# Altium integrated library Linear Technology Operational Amplifiers (LT2000-LT6000).IntLib: 1710 symbols (part 4 of 75)
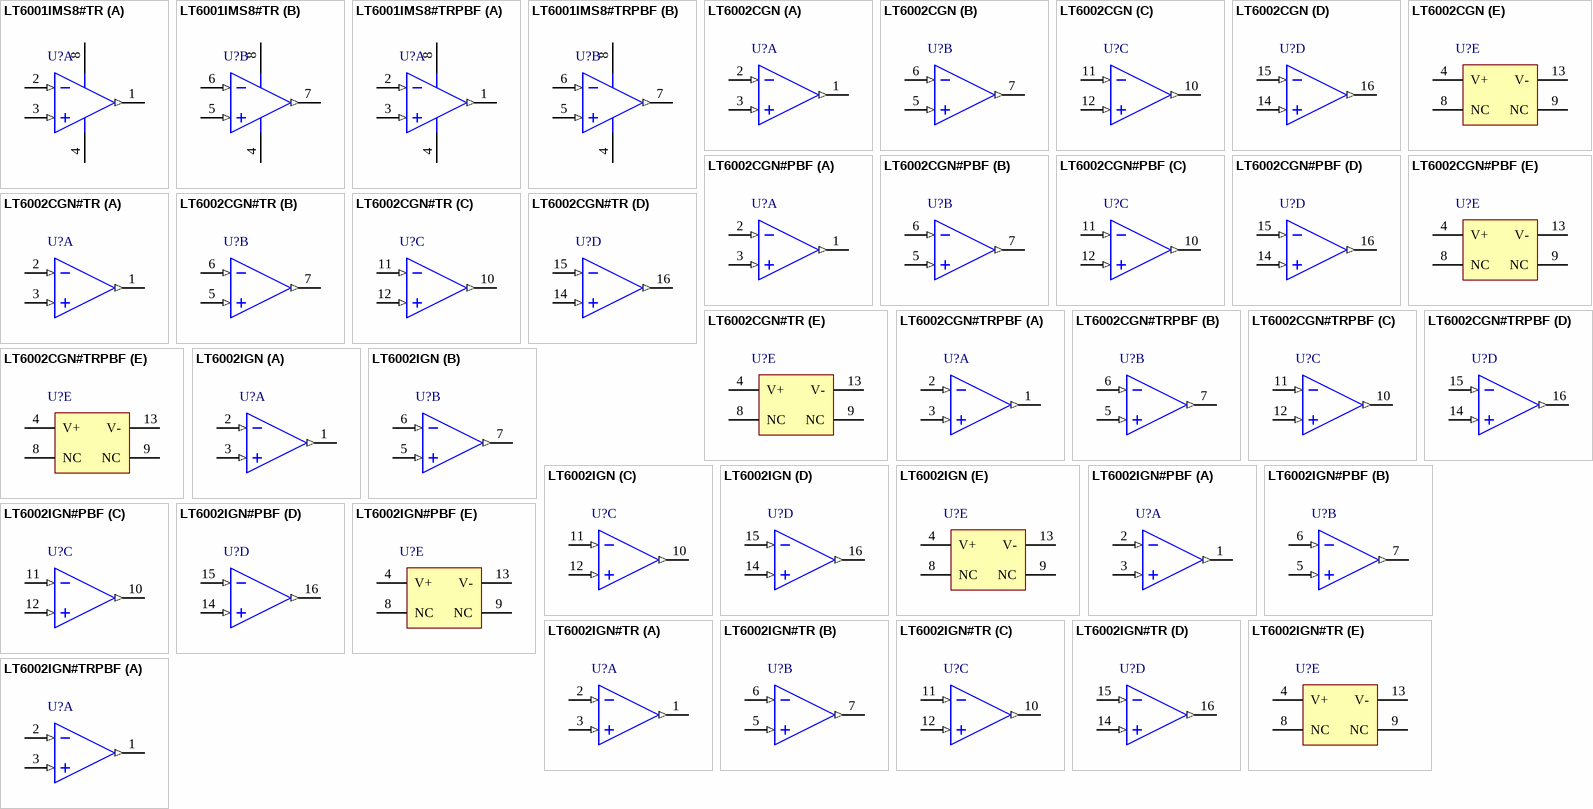
[diagram p83: symbols LT6001IMS8#TR to LT6002IGN#TRPBF]

## LT6002CGN#PBF
designator U?
Quad Channel, Precision Operational Amplifier, RRIO, 0.05 MHz Typical GBW, 0.015 V/us Typical SR, 1.8 to 18 V, 16-Pin SOP (GN-16), Commercial, Pb-Free; Linear Technology Part Number: LT6002; Manufacturer: Linear Technology; PartNumber: LT6002CGN#PBF; Channels (#): 4; GBW (MHz) Typical: 0.05; Is (mA) Typical: 0.013; SR (V/us) Typical: 0.015; Vos (mV) Guaranteed: 0.75; Vos (mV) Typical: 0.25; Vs Max (V): 18; Vs Min (V): 1.8; DatasheetVersion: Rev. A; PackageVersion: Rev B; PackageReference: LT-GN-16; PackageDescription: 16-Lead Plastic SSOP, Body 4.9 x 3.9 mm, Pitch 0.635 mm; Supplier 1: Digi-Key; Supplier Part Number 1: LT6002CGN#PBF-ND; Supplier 2: Newark; Supplier Part Number 2: 57M8873; RoHS: Pb-Free; Type: VFB; Mounting Technology: Surface Mount; ComponentLink1Description: Manufacturer URL; ComponentLink1URL: http://www.linear.com/; ComponentLink2Description: Datasheet; ComponentLink2URL: http://cds.linear.com/docs/en/datasheet/600012fa.pdf; ComponentLink3Description: Package Specification; ComponentLink3URL: http://cds.linear.com/docs/en/packaging/05081641_B_GN16.pdf
footprint LT-GN-16_N (SOP, 16-Leads, Body 4.9x3.9mm, Pitch 0.635mm, IPC Medium Density)
footprint LT-GN-16_L (SOP, 16-Leads, Body 4.9x3.9mm, Pitch 0.635mm, IPC High Density)
footprint LT-GN-16_M (SOP, 16-Leads, Body 4.9x3.9mm, Pitch 0.635mm, IPC Low Density)
part A pins: 1 OUT A (out), 2 IN- A (in), 3 IN+ A (in)
part B pins: 5 IN+ B (in), 6 IN- B (in), 7 OUT B (out)
part C pins: 10 OUT C (out), 11 IN- C (in), 12 IN+ C (in)
part D pins: 14 IN+ D (in), 15 IN- D (in), 16 OUT D (out)
part E pins: 4 V+ (power), 8 NC, 9 NC, 13 V- (power)

## LT6002CGN#TR
designator U?
Quad Channel, Precision Operational Amplifier, RRIO, 0.05 MHz Typical GBW, 0.015 V/us Typical SR, 1.8 to 18 V, 16-Pin SOP (GN-16), Commercial, Reel; Linear Technology Part Number: LT6002; Manufacturer: Linear Technology; PartNumber: LT6002CGN#TR; Channels (#): 4; GBW (MHz) Typical: 0.05; Is (mA) Typical: 0.013; SR (V/us) Typical: 0.015; Vos (mV) Guaranteed: 0.75; Vos (mV) Typical: 0.25; Vs Max (V): 18; Vs Min (V): 1.8; DatasheetVersion: Rev. A; PackageVersion: Rev B; PackageReference: LT-GN-16; PackageDescription: 16-Lead Plastic SSOP, Body 4.9 x 3.9 mm, Pitch 0.635 mm; Packing: Reel; Type: VFB; Mounting Technology: Surface Mount; ComponentLink1Description: Manufacturer URL; ComponentLink1URL: http://www.linear.com/; ComponentLink2Description: Datasheet; ComponentLink2URL: http://cds.linear.com/docs/en/datasheet/600012fa.pdf; ComponentLink3Description: Package Specification; ComponentLink3URL: http://cds.linear.com/docs/en/packaging/05081641_B_GN16.pdf
footprint LT-GN-16_N (SOP, 16-Leads, Body 4.9x3.9mm, Pitch 0.635mm, IPC Medium Density)
footprint LT-GN-16_L (SOP, 16-Leads, Body 4.9x3.9mm, Pitch 0.635mm, IPC High Density)
footprint LT-GN-16_M (SOP, 16-Leads, Body 4.9x3.9mm, Pitch 0.635mm, IPC Low Density)
part A pins: 1 OUT A (out), 2 IN- A (in), 3 IN+ A (in)
part B pins: 5 IN+ B (in), 6 IN- B (in), 7 OUT B (out)
part C pins: 10 OUT C (out), 11 IN- C (in), 12 IN+ C (in)
part D pins: 14 IN+ D (in), 15 IN- D (in), 16 OUT D (out)
part E pins: 4 V+ (power), 8 NC, 9 NC, 13 V- (power)

## LT6002CGN#TRPBF
designator U?
Quad Channel, Precision Operational Amplifier, RRIO, 0.05 MHz Typical GBW, 0.015 V/us Typical SR, 1.8 to 18 V, 16-Pin SOP (GN-16), Commercial, Pb-Free, Reel; Linear Technology Part Number: LT6002; Manufacturer: Linear Technology; PartNumber: LT6002CGN#TRPBF; Channels (#): 4; GBW (MHz) Typical: 0.05; Is (mA) Typical: 0.013; SR (V/us) Typical: 0.015; Vos (mV) Guaranteed: 0.75; Vos (mV) Typical: 0.25; Vs Max (V): 18; Vs Min (V): 1.8; DatasheetVersion: Rev. A; PackageVersion: Rev B; PackageReference: LT-GN-16; PackageDescription: 16-Lead Plastic SSOP, Body 4.9 x 3.9 mm, Pitch 0.635 mm; Supplier 1: Digi-Key; Supplier Part Number 1: LT6002CGN#TRPBF-ND; Packing: Reel; RoHS: Pb-Free; Type: VFB; Mounting Technology: Surface Mount; ComponentLink1Description: Manufacturer URL; ComponentLink1URL: http://www.linear.com/; ComponentLink2Description: Datasheet; ComponentLink2URL: http://cds.linear.com/docs/en/datasheet/600012fa.pdf; ComponentLink3Description: Package Specification; ComponentLink3URL: http://cds.linear.com/docs/en/packaging/05081641_B_GN16.pdf
footprint LT-GN-16_N (SOP, 16-Leads, Body 4.9x3.9mm, Pitch 0.635mm, IPC Medium Density)
footprint LT-GN-16_L (SOP, 16-Leads, Body 4.9x3.9mm, Pitch 0.635mm, IPC High Density)
footprint LT-GN-16_M (SOP, 16-Leads, Body 4.9x3.9mm, Pitch 0.635mm, IPC Low Density)
part A pins: 1 OUT A (out), 2 IN- A (in), 3 IN+ A (in)
part B pins: 5 IN+ B (in), 6 IN- B (in), 7 OUT B (out)
part C pins: 10 OUT C (out), 11 IN- C (in), 12 IN+ C (in)
part D pins: 14 IN+ D (in), 15 IN- D (in), 16 OUT D (out)
part E pins: 4 V+ (power), 8 NC, 9 NC, 13 V- (power)

## LT6002IGN
designator U?
Quad Channel, Precision Operational Amplifier, RRIO, 0.05 MHz Typical GBW, 0.015 V/us Typical SR, 1.8 to 18 V, 16-Pin SOP (GN-16), Industrial; Linear Technology Part Number: LT6002; Manufacturer: Linear Technology; PartNumber: LT6002IGN; Channels (#): 4; GBW (MHz) Typical: 0.05; Is (mA) Typical: 0.013; SR (V/us) Typical: 0.015; Vos (mV) Guaranteed: 0.75; Vos (mV) Typical: 0.25; Vs Max (V): 18; Vs Min (V): 1.8; DatasheetVersion: Rev. A; PackageVersion: Rev B; PackageReference: LT-GN-16; PackageDescription: 16-Lead Plastic SSOP, Body 4.9 x 3.9 mm, Pitch 0.635 mm; Type: VFB; Mounting Technology: Surface Mount; ComponentLink1Description: Manufacturer URL; ComponentLink1URL: http://www.linear.com/; ComponentLink2Description: Datasheet; ComponentLink2URL: http://cds.linear.com/docs/en/datasheet/600012fa.pdf; ComponentLink3Description: Package Specification; ComponentLink3URL: http://cds.linear.com/docs/en/packaging/05081641_B_GN16.pdf
footprint LT-GN-16_N (SOP, 16-Leads, Body 4.9x3.9mm, Pitch 0.635mm, IPC Medium Density)
footprint LT-GN-16_L (SOP, 16-Leads, Body 4.9x3.9mm, Pitch 0.635mm, IPC High Density)
footprint LT-GN-16_M (SOP, 16-Leads, Body 4.9x3.9mm, Pitch 0.635mm, IPC Low Density)
part A pins: 1 OUT A (out), 2 IN- A (in), 3 IN+ A (in)
part B pins: 5 IN+ B (in), 6 IN- B (in), 7 OUT B (out)
part C pins: 10 OUT C (out), 11 IN- C (in), 12 IN+ C (in)
part D pins: 14 IN+ D (in), 15 IN- D (in), 16 OUT D (out)
part E pins: 4 V+ (power), 8 NC, 9 NC, 13 V- (power)

## LT6002IGN#PBF
designator U?
Quad Channel, Precision Operational Amplifier, RRIO, 0.05 MHz Typical GBW, 0.015 V/us Typical SR, 1.8 to 18 V, 16-Pin SOP (GN-16), Industrial, Pb-Free; Linear Technology Part Number: LT6002; Manufacturer: Linear Technology; PartNumber: LT6002IGN#PBF; Channels (#): 4; GBW (MHz) Typical: 0.05; Is (mA) Typical: 0.013; SR (V/us) Typical: 0.015; Vos (mV) Guaranteed: 0.75; Vos (mV) Typical: 0.25; Vs Max (V): 18; Vs Min (V): 1.8; DatasheetVersion: Rev. A; PackageVersion: Rev B; PackageReference: LT-GN-16; PackageDescription: 16-Lead Plastic SSOP, Body 4.9 x 3.9 mm, Pitch 0.635 mm; Supplier 1: Digi-Key; Supplier Part Number 1: LT6002IGN#PBF-ND; Supplier 2: Farnell; Supplier Part Number 2: 1432095; RoHS: Pb-Free; Type: VFB; Mounting Technology: Surface Mount; ComponentLink1Description: Manufacturer URL; ComponentLink1URL: http://www.linear.com/; ComponentLink2Description: Datasheet; ComponentLink2URL: http://cds.linear.com/docs/en/datasheet/600012fa.pdf; ComponentLink3Description: Package Specification; ComponentLink3URL: http://cds.linear.com/docs/en/packaging/05081641_B_GN16.pdf
footprint LT-GN-16_N (SOP, 16-Leads, Body 4.9x3.9mm, Pitch 0.635mm, IPC Medium Density)
footprint LT-GN-16_L (SOP, 16-Leads, Body 4.9x3.9mm, Pitch 0.635mm, IPC High Density)
footprint LT-GN-16_M (SOP, 16-Leads, Body 4.9x3.9mm, Pitch 0.635mm, IPC Low Density)
part A pins: 1 OUT A (out), 2 IN- A (in), 3 IN+ A (in)
part B pins: 5 IN+ B (in), 6 IN- B (in), 7 OUT B (out)
part C pins: 10 OUT C (out), 11 IN- C (in), 12 IN+ C (in)
part D pins: 14 IN+ D (in), 15 IN- D (in), 16 OUT D (out)
part E pins: 4 V+ (power), 8 NC, 9 NC, 13 V- (power)

## LT6002IGN#TR
designator U?
Quad Channel, Precision Operational Amplifier, RRIO, 0.05 MHz Typical GBW, 0.015 V/us Typical SR, 1.8 to 18 V, 16-Pin SOP (GN-16), Industrial, Reel; Linear Technology Part Number: LT6002; Manufacturer: Linear Technology; PartNumber: LT6002IGN#TR; Channels (#): 4; GBW (MHz) Typical: 0.05; Is (mA) Typical: 0.013; SR (V/us) Typical: 0.015; Vos (mV) Guaranteed: 0.75; Vos (mV) Typical: 0.25; Vs Max (V): 18; Vs Min (V): 1.8; DatasheetVersion: Rev. A; PackageVersion: Rev B; PackageReference: LT-GN-16; PackageDescription: 16-Lead Plastic SSOP, Body 4.9 x 3.9 mm, Pitch 0.635 mm; Packing: Reel; Type: VFB; Mounting Technology: Surface Mount; ComponentLink1Description: Manufacturer URL; ComponentLink1URL: http://www.linear.com/; ComponentLink2Description: Datasheet; ComponentLink2URL: http://cds.linear.com/docs/en/datasheet/600012fa.pdf; ComponentLink3Description: Package Specification; ComponentLink3URL: http://cds.linear.com/docs/en/packaging/05081641_B_GN16.pdf
footprint LT-GN-16_N (SOP, 16-Leads, Body 4.9x3.9mm, Pitch 0.635mm, IPC Medium Density)
footprint LT-GN-16_L (SOP, 16-Leads, Body 4.9x3.9mm, Pitch 0.635mm, IPC High Density)
footprint LT-GN-16_M (SOP, 16-Leads, Body 4.9x3.9mm, Pitch 0.635mm, IPC Low Density)
part A pins: 1 OUT A (out), 2 IN- A (in), 3 IN+ A (in)
part B pins: 5 IN+ B (in), 6 IN- B (in), 7 OUT B (out)
part C pins: 10 OUT C (out), 11 IN- C (in), 12 IN+ C (in)
part D pins: 14 IN+ D (in), 15 IN- D (in), 16 OUT D (out)
part E pins: 4 V+ (power), 8 NC, 9 NC, 13 V- (power)

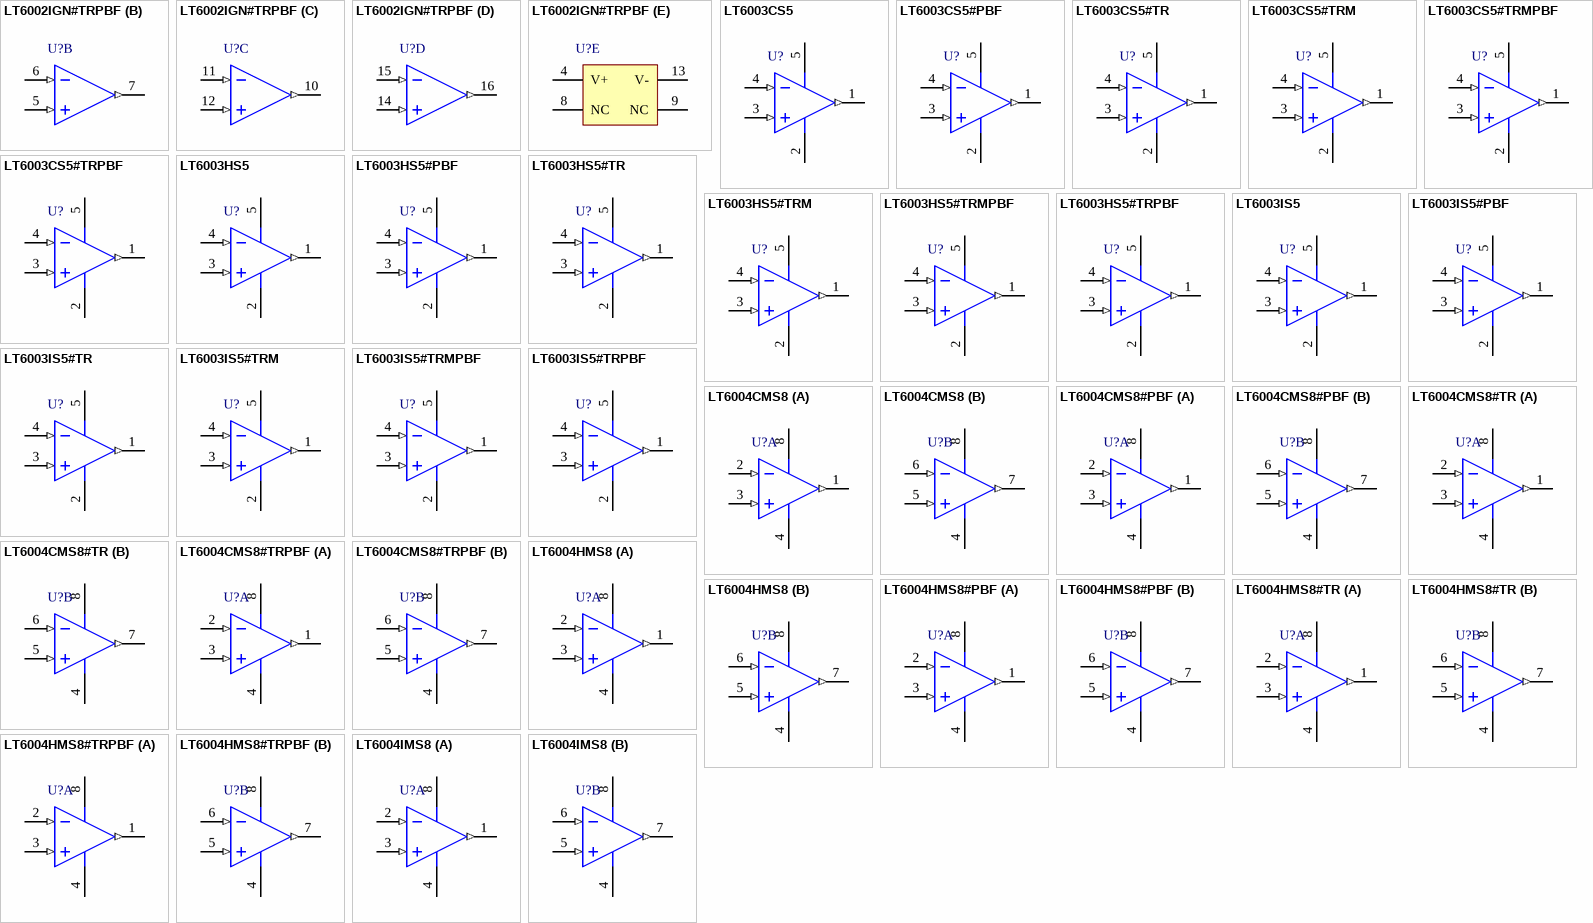
[diagram p6: symbols LT6002IGN#TRPBF to LT6004IMS8]

## LT6002IGN#TRPBF
designator U?
Quad Channel, Precision Operational Amplifier, RRIO, 0.05 MHz Typical GBW, 0.015 V/us Typical SR, 1.8 to 18 V, 16-Pin SOP (GN-16), Industrial, Pb-Free, Reel; Linear Technology Part Number: LT6002; Manufacturer: Linear Technology; PartNumber: LT6002IGN#TRPBF; Channels (#): 4; GBW (MHz) Typical: 0.05; Is (mA) Typical: 0.013; SR (V/us) Typical: 0.015; Vos (mV) Guaranteed: 0.75; Vos (mV) Typical: 0.25; Vs Max (V): 18; Vs Min (V): 1.8; DatasheetVersion: Rev. A; PackageVersion: Rev B; PackageReference: LT-GN-16; PackageDescription: 16-Lead Plastic SSOP, Body 4.9 x 3.9 mm, Pitch 0.635 mm; Supplier 1: Digi-Key; Supplier Part Number 1: LT6002IGN#TRPBF-ND; Packing: Reel; RoHS: Pb-Free; Type: VFB; Mounting Technology: Surface Mount; ComponentLink1Description: Manufacturer URL; ComponentLink1URL: http://www.linear.com/; ComponentLink2Description: Datasheet; ComponentLink2URL: http://cds.linear.com/docs/en/datasheet/600012fa.pdf; ComponentLink3Description: Package Specification; ComponentLink3URL: http://cds.linear.com/docs/en/packaging/05081641_B_GN16.pdf
footprint LT-GN-16_N (SOP, 16-Leads, Body 4.9x3.9mm, Pitch 0.635mm, IPC Medium Density)
footprint LT-GN-16_L (SOP, 16-Leads, Body 4.9x3.9mm, Pitch 0.635mm, IPC High Density)
footprint LT-GN-16_M (SOP, 16-Leads, Body 4.9x3.9mm, Pitch 0.635mm, IPC Low Density)
part A pins: 1 OUT A (out), 2 IN- A (in), 3 IN+ A (in)
part B pins: 5 IN+ B (in), 6 IN- B (in), 7 OUT B (out)
part C pins: 10 OUT C (out), 11 IN- C (in), 12 IN+ C (in)
part D pins: 14 IN+ D (in), 15 IN- D (in), 16 OUT D (out)
part E pins: 4 V+ (power), 8 NC, 9 NC, 13 V- (power)

## LT6003CS5
designator U?
Single Channel, Precision Operational Amplifier, RRIO, 0.002 MHz Typical GBW, 0.0008 V/us Typical SR, 1.6 to 16 V, 5-Pin SOT23 (S5-5), Commercial; Linear Technology Part Number: LT6003; Manufacturer: Linear Technology; PartNumber: LT6003CS5; Channels (#): 1; GBW (MHz) Typical: 0.002; Is (mA) Typical: 0.00085; SR (V/us) Typical: 0.0008; Vos (mV) Guaranteed: 0.5; Vos (mV) Typical: 0.175; Vs Max (V): 16; Vs Min (V): 1.6; DatasheetVersion: Rev. D; PackageReference: LT-S5-5-TSOT-23; PackageDescription: 5-Lead Plastic TSOT-23, Body 1.63 x 2.90 mm, Pitch 0.95 mm; Type: VFB; Mounting Technology: Surface Mount; Code_JEDEC: MO-193; ComponentLink1Description: Manufacturer URL; ComponentLink1URL: http://www.linear.com/; ComponentLink2Description: Datasheet; ComponentLink2URL: http://cds.linear.com/docs/en/datasheet/600345fd.pdf; ComponentLink3Description: Package Specification; ComponentLink3URL: http://cds.linear.com/docs/en/packaging/SOT_5_05-08-1635.pdf
footprint LT-S5-5-TSOT-23_N (SOT23, 5-Leads, Body 2.90x1.63mm, Pitch 0.95mm, IPC Medium Density)
footprint LT-S5-5-TSOT-23_L (SOT23, 5-Leads, Body 2.90x1.63mm, Pitch 0.95mm, IPC High Density)
footprint LT-S5-5-TSOT-23_M (SOT23, 5-Leads, Body 2.90x1.63mm, Pitch 0.95mm, IPC Low Density)
pins: 1 OUT (out), 2 V- (power), 3 +IN (in), 4 -IN (in), 5 V+ (power)

## LT6003CS5#PBF
designator U?
Single Channel, Precision Operational Amplifier, RRIO, 0.002 MHz Typical GBW, 0.0008 V/us Typical SR, 1.6 to 16 V, 5-Pin SOT23 (S5-5), Commercial, Pb-Free; Linear Technology Part Number: LT6003; Manufacturer: Linear Technology; PartNumber: LT6003CS5#PBF; Channels (#): 1; GBW (MHz) Typical: 0.002; Is (mA) Typical: 0.00085; SR (V/us) Typical: 0.0008; Vos (mV) Guaranteed: 0.5; Vos (mV) Typical: 0.175; Vs Max (V): 16; Vs Min (V): 1.6; DatasheetVersion: Rev. D; PackageReference: LT-S5-5-TSOT-23; PackageDescription: 5-Lead Plastic TSOT-23, Body 1.63 x 2.90 mm, Pitch 0.95 mm; Supplier 1: Farnell; Supplier Part Number 1: 2308218; Supplier 2: Newark; Supplier Part Number 2: 78T4148; RoHS: Pb-Free; Type: VFB; Mounting Technology: Surface Mount; Code_JEDEC: MO-193; ComponentLink1Description: Manufacturer URL; ComponentLink1URL: http://www.linear.com/; ComponentLink2Description: Datasheet; ComponentLink2URL: http://cds.linear.com/docs/en/datasheet/600345fd.pdf; ComponentLink3Description: Package Specification; ComponentLink3URL: http://cds.linear.com/docs/en/packaging/SOT_5_05-08-1635.pdf
footprint LT-S5-5-TSOT-23_N (SOT23, 5-Leads, Body 2.90x1.63mm, Pitch 0.95mm, IPC Medium Density)
footprint LT-S5-5-TSOT-23_L (SOT23, 5-Leads, Body 2.90x1.63mm, Pitch 0.95mm, IPC High Density)
footprint LT-S5-5-TSOT-23_M (SOT23, 5-Leads, Body 2.90x1.63mm, Pitch 0.95mm, IPC Low Density)
pins: 1 OUT (out), 2 V- (power), 3 +IN (in), 4 -IN (in), 5 V+ (power)

## LT6003CS5#TR
designator U?
Single Channel, Precision Operational Amplifier, RRIO, 0.002 MHz Typical GBW, 0.0008 V/us Typical SR, 1.6 to 16 V, 5-Pin SOT23 (S5-5), Commercial, Reel; Linear Technology Part Number: LT6003; Manufacturer: Linear Technology; PartNumber: LT6003CS5#TR; Channels (#): 1; GBW (MHz) Typical: 0.002; Is (mA) Typical: 0.00085; SR (V/us) Typical: 0.0008; Vos (mV) Guaranteed: 0.5; Vos (mV) Typical: 0.175; Vs Max (V): 16; Vs Min (V): 1.6; DatasheetVersion: Rev. D; PackageReference: LT-S5-5-TSOT-23; PackageDescription: 5-Lead Plastic TSOT-23, Body 1.63 x 2.90 mm, Pitch 0.95 mm; Packing: Reel; Type: VFB; Mounting Technology: Surface Mount; Code_JEDEC: MO-193; ComponentLink1Description: Manufacturer URL; ComponentLink1URL: http://www.linear.com/; ComponentLink2Description: Datasheet; ComponentLink2URL: http://cds.linear.com/docs/en/datasheet/600345fd.pdf; ComponentLink3Description: Package Specification; ComponentLink3URL: http://cds.linear.com/docs/en/packaging/SOT_5_05-08-1635.pdf
footprint LT-S5-5-TSOT-23_N (SOT23, 5-Leads, Body 2.90x1.63mm, Pitch 0.95mm, IPC Medium Density)
footprint LT-S5-5-TSOT-23_L (SOT23, 5-Leads, Body 2.90x1.63mm, Pitch 0.95mm, IPC High Density)
footprint LT-S5-5-TSOT-23_M (SOT23, 5-Leads, Body 2.90x1.63mm, Pitch 0.95mm, IPC Low Density)
pins: 1 OUT (out), 2 V- (power), 3 +IN (in), 4 -IN (in), 5 V+ (power)

## LT6003CS5#TRM
designator U?
Single Channel, Precision Operational Amplifier, RRIO, 0.002 MHz Typical GBW, 0.0008 V/us Typical SR, 1.6 to 16 V, 5-Pin SOT23 (S5-5), Commercial, Mini Reel; Linear Technology Part Number: LT6003; Manufacturer: Linear Technology; PartNumber: LT6003CS5#TRM; Channels (#): 1; GBW (MHz) Typical: 0.002; Is (mA) Typical: 0.00085; SR (V/us) Typical: 0.0008; Vos (mV) Guaranteed: 0.5; Vos (mV) Typical: 0.175; Vs Max (V): 16; Vs Min (V): 1.6; DatasheetVersion: Rev. D; PackageReference: LT-S5-5-TSOT-23; PackageDescription: 5-Lead Plastic TSOT-23, Body 1.63 x 2.90 mm, Pitch 0.95 mm; Packing: Mini Reel; Type: VFB; Mounting Technology: Surface Mount; Code_JEDEC: MO-193; ComponentLink1Description: Manufacturer URL; ComponentLink1URL: http://www.linear.com/; ComponentLink2Description: Datasheet; ComponentLink2URL: http://cds.linear.com/docs/en/datasheet/600345fd.pdf; ComponentLink3Description: Package Specification; ComponentLink3URL: http://cds.linear.com/docs/en/packaging/SOT_5_05-08-1635.pdf
footprint LT-S5-5-TSOT-23_N (SOT23, 5-Leads, Body 2.90x1.63mm, Pitch 0.95mm, IPC Medium Density)
footprint LT-S5-5-TSOT-23_L (SOT23, 5-Leads, Body 2.90x1.63mm, Pitch 0.95mm, IPC High Density)
footprint LT-S5-5-TSOT-23_M (SOT23, 5-Leads, Body 2.90x1.63mm, Pitch 0.95mm, IPC Low Density)
pins: 1 OUT (out), 2 V- (power), 3 +IN (in), 4 -IN (in), 5 V+ (power)

## LT6003CS5#TRMPBF
designator U?
Single Channel, Precision Operational Amplifier, RRIO, 0.002 MHz Typical GBW, 0.0008 V/us Typical SR, 1.6 to 16 V, 5-Pin SOT23 (S5-5), Commercial, Pb-Free, Mini Reel; Linear Technology Part Number: LT6003; Manufacturer: Linear Technology; PartNumber: LT6003CS5#TRMPBF; Channels (#): 1; GBW (MHz) Typical: 0.002; Is (mA) Typical: 0.00085; SR (V/us) Typical: 0.0008; Vos (mV) Guaranteed: 0.5; Vos (mV) Typical: 0.175; Vs Max (V): 16; Vs Min (V): 1.6; DatasheetVersion: Rev. D; PackageReference: LT-S5-5-TSOT-23; PackageDescription: 5-Lead Plastic TSOT-23, Body 1.63 x 2.90 mm, Pitch 0.95 mm; Supplier 1: Digi-Key; Supplier Part Number 1: LT6003CS5#TRMPBFTR-ND; Supplier 2: Digi-Key; Supplier Part Number 2: LT6003CS5#TRMPBFCT-ND; Supplier 3: Digi-Key; Supplier Part Number 3: LT6003CS5#TRMPBFDKR-ND; Supplier 4: Farnell; Supplier Part Number 4: 1715042RL; Supplier 5: Farnell; Supplier Part Number 5: 1715042; Supplier 6: Newark; Supplier Part Number 6: 57M8880; Packing: Mini Reel; RoHS: Pb-Free; Type: VFB; Mounting Technology: Surface Mount; Code_JEDEC: MO-193; ComponentLink1Description: Manufacturer URL; ComponentLink1URL: http://www.linear.com/; ComponentLink2Description: Datasheet; ComponentLink2URL: http://cds.linear.com/docs/en/datasheet/600345fd.pdf; ComponentLink3Description: Package Specification; ComponentLink3URL: http://cds.linear.com/docs/en/packaging/SOT_5_05-08-1635.pdf
footprint LT-S5-5-TSOT-23_N (SOT23, 5-Leads, Body 2.90x1.63mm, Pitch 0.95mm, IPC Medium Density)
footprint LT-S5-5-TSOT-23_L (SOT23, 5-Leads, Body 2.90x1.63mm, Pitch 0.95mm, IPC High Density)
footprint LT-S5-5-TSOT-23_M (SOT23, 5-Leads, Body 2.90x1.63mm, Pitch 0.95mm, IPC Low Density)
pins: 1 OUT (out), 2 V- (power), 3 +IN (in), 4 -IN (in), 5 V+ (power)

## LT6003CS5#TRPBF
designator U?
Single Channel, Precision Operational Amplifier, RRIO, 0.002 MHz Typical GBW, 0.0008 V/us Typical SR, 1.6 to 16 V, 5-Pin SOT23 (S5-5), Commercial, Pb-Free, Reel; Linear Technology Part Number: LT6003; Manufacturer: Linear Technology; PartNumber: LT6003CS5#TRPBF; Channels (#): 1; GBW (MHz) Typical: 0.002; Is (mA) Typical: 0.00085; SR (V/us) Typical: 0.0008; Vos (mV) Guaranteed: 0.5; Vos (mV) Typical: 0.175; Vs Max (V): 16; Vs Min (V): 1.6; DatasheetVersion: Rev. D; PackageReference: LT-S5-5-TSOT-23; PackageDescription: 5-Lead Plastic TSOT-23, Body 1.63 x 2.90 mm, Pitch 0.95 mm; Supplier 1: Digi-Key; Supplier Part Number 1: LT6003CS5#TRPBF-ND; Packing: Reel; RoHS: Pb-Free; Type: VFB; Mounting Technology: Surface Mount; Code_JEDEC: MO-193; ComponentLink1Description: Manufacturer URL; ComponentLink1URL: http://www.linear.com/; ComponentLink2Description: Datasheet; ComponentLink2URL: http://cds.linear.com/docs/en/datasheet/600345fd.pdf; ComponentLink3Description: Package Specification; ComponentLink3URL: http://cds.linear.com/docs/en/packaging/SOT_5_05-08-1635.pdf
footprint LT-S5-5-TSOT-23_N (SOT23, 5-Leads, Body 2.90x1.63mm, Pitch 0.95mm, IPC Medium Density)
footprint LT-S5-5-TSOT-23_L (SOT23, 5-Leads, Body 2.90x1.63mm, Pitch 0.95mm, IPC High Density)
footprint LT-S5-5-TSOT-23_M (SOT23, 5-Leads, Body 2.90x1.63mm, Pitch 0.95mm, IPC Low Density)
pins: 1 OUT (out), 2 V- (power), 3 +IN (in), 4 -IN (in), 5 V+ (power)

## LT6003HS5
designator U?
Single Channel, Precision Operational Amplifier, RRIO, 0.002 MHz Typical GBW, 0.0008 V/us Typical SR, 1.6 to 16 V, 5-Pin SOT23 (S5-5), High Temperature / Automotive; Linear Technology Part Number: LT6003; Manufacturer: Linear Technology; PartNumber: LT6003HS5; Channels (#): 1; GBW (MHz) Typical: 0.002; Is (mA) Typical: 0.00085; SR (V/us) Typical: 0.0008; Vos (mV) Guaranteed: 0.5; Vos (mV) Typical: 0.175; Vs Max (V): 16; Vs Min (V): 1.6; DatasheetVersion: Rev. D; PackageReference: LT-S5-5-TSOT-23; PackageDescription: 5-Lead Plastic TSOT-23, Body 1.63 x 2.90 mm, Pitch 0.95 mm; Type: VFB; Mounting Technology: Surface Mount; Code_JEDEC: MO-193; ComponentLink1Description: Manufacturer URL; ComponentLink1URL: http://www.linear.com/; ComponentLink2Description: Datasheet; ComponentLink2URL: http://cds.linear.com/docs/en/datasheet/600345fd.pdf; ComponentLink3Description: Package Specification; ComponentLink3URL: http://cds.linear.com/docs/en/packaging/SOT_5_05-08-1635.pdf
footprint LT-S5-5-TSOT-23_N (SOT23, 5-Leads, Body 2.90x1.63mm, Pitch 0.95mm, IPC Medium Density)
footprint LT-S5-5-TSOT-23_L (SOT23, 5-Leads, Body 2.90x1.63mm, Pitch 0.95mm, IPC High Density)
footprint LT-S5-5-TSOT-23_M (SOT23, 5-Leads, Body 2.90x1.63mm, Pitch 0.95mm, IPC Low Density)
pins: 1 OUT (out), 2 V- (power), 3 +IN (in), 4 -IN (in), 5 V+ (power)

## LT6003HS5#PBF
designator U?
Single Channel, Precision Operational Amplifier, RRIO, 0.002 MHz Typical GBW, 0.0008 V/us Typical SR, 1.6 to 16 V, 5-Pin SOT23 (S5-5), High Temperature / Automotive, Pb-Free; Linear Technology Part Number: LT6003; Manufacturer: Linear Technology; PartNumber: LT6003HS5#PBF; Channels (#): 1; GBW (MHz) Typical: 0.002; Is (mA) Typical: 0.00085; SR (V/us) Typical: 0.0008; Vos (mV) Guaranteed: 0.5; Vos (mV) Typical: 0.175; Vs Max (V): 16; Vs Min (V): 1.6; DatasheetVersion: Rev. D; PackageReference: LT-S5-5-TSOT-23; PackageDescription: 5-Lead Plastic TSOT-23, Body 1.63 x 2.90 mm, Pitch 0.95 mm; Supplier 1: Farnell; Supplier Part Number 1: 2308219; Supplier 2: Newark; Supplier Part Number 2: 78T4150; RoHS: Pb-Free; Type: VFB; Mounting Technology: Surface Mount; Code_JEDEC: MO-193; ComponentLink1Description: Manufacturer URL; ComponentLink1URL: http://www.linear.com/; ComponentLink2Description: Datasheet; ComponentLink2URL: http://cds.linear.com/docs/en/datasheet/600345fd.pdf; ComponentLink3Description: Package Specification; ComponentLink3URL: http://cds.linear.com/docs/en/packaging/SOT_5_05-08-1635.pdf
footprint LT-S5-5-TSOT-23_N (SOT23, 5-Leads, Body 2.90x1.63mm, Pitch 0.95mm, IPC Medium Density)
footprint LT-S5-5-TSOT-23_L (SOT23, 5-Leads, Body 2.90x1.63mm, Pitch 0.95mm, IPC High Density)
footprint LT-S5-5-TSOT-23_M (SOT23, 5-Leads, Body 2.90x1.63mm, Pitch 0.95mm, IPC Low Density)
pins: 1 OUT (out), 2 V- (power), 3 +IN (in), 4 -IN (in), 5 V+ (power)

## LT6003HS5#TR
designator U?
Single Channel, Precision Operational Amplifier, RRIO, 0.002 MHz Typical GBW, 0.0008 V/us Typical SR, 1.6 to 16 V, 5-Pin SOT23 (S5-5), High Temperature / Automotive, Reel; Linear Technology Part Number: LT6003; Manufacturer: Linear Technology; PartNumber: LT6003HS5#TR; Channels (#): 1; GBW (MHz) Typical: 0.002; Is (mA) Typical: 0.00085; SR (V/us) Typical: 0.0008; Vos (mV) Guaranteed: 0.5; Vos (mV) Typical: 0.175; Vs Max (V): 16; Vs Min (V): 1.6; DatasheetVersion: Rev. D; PackageReference: LT-S5-5-TSOT-23; PackageDescription: 5-Lead Plastic TSOT-23, Body 1.63 x 2.90 mm, Pitch 0.95 mm; Packing: Reel; Type: VFB; Mounting Technology: Surface Mount; Code_JEDEC: MO-193; ComponentLink1Description: Manufacturer URL; ComponentLink1URL: http://www.linear.com/; ComponentLink2Description: Datasheet; ComponentLink2URL: http://cds.linear.com/docs/en/datasheet/600345fd.pdf; ComponentLink3Description: Package Specification; ComponentLink3URL: http://cds.linear.com/docs/en/packaging/SOT_5_05-08-1635.pdf
footprint LT-S5-5-TSOT-23_N (SOT23, 5-Leads, Body 2.90x1.63mm, Pitch 0.95mm, IPC Medium Density)
footprint LT-S5-5-TSOT-23_L (SOT23, 5-Leads, Body 2.90x1.63mm, Pitch 0.95mm, IPC High Density)
footprint LT-S5-5-TSOT-23_M (SOT23, 5-Leads, Body 2.90x1.63mm, Pitch 0.95mm, IPC Low Density)
pins: 1 OUT (out), 2 V- (power), 3 +IN (in), 4 -IN (in), 5 V+ (power)

## LT6003HS5#TRM
designator U?
Single Channel, Precision Operational Amplifier, RRIO, 0.002 MHz Typical GBW, 0.0008 V/us Typical SR, 1.6 to 16 V, 5-Pin SOT23 (S5-5), High Temperature / Automotive, Mini Reel; Linear Technology Part Number: LT6003; Manufacturer: Linear Technology; PartNumber: LT6003HS5#TRM; Channels (#): 1; GBW (MHz) Typical: 0.002; Is (mA) Typical: 0.00085; SR (V/us) Typical: 0.0008; Vos (mV) Guaranteed: 0.5; Vos (mV) Typical: 0.175; Vs Max (V): 16; Vs Min (V): 1.6; DatasheetVersion: Rev. D; PackageReference: LT-S5-5-TSOT-23; PackageDescription: 5-Lead Plastic TSOT-23, Body 1.63 x 2.90 mm, Pitch 0.95 mm; Packing: Mini Reel; Type: VFB; Mounting Technology: Surface Mount; Code_JEDEC: MO-193; ComponentLink1Description: Manufacturer URL; ComponentLink1URL: http://www.linear.com/; ComponentLink2Description: Datasheet; ComponentLink2URL: http://cds.linear.com/docs/en/datasheet/600345fd.pdf; ComponentLink3Description: Package Specification; ComponentLink3URL: http://cds.linear.com/docs/en/packaging/SOT_5_05-08-1635.pdf
footprint LT-S5-5-TSOT-23_N (SOT23, 5-Leads, Body 2.90x1.63mm, Pitch 0.95mm, IPC Medium Density)
footprint LT-S5-5-TSOT-23_L (SOT23, 5-Leads, Body 2.90x1.63mm, Pitch 0.95mm, IPC High Density)
footprint LT-S5-5-TSOT-23_M (SOT23, 5-Leads, Body 2.90x1.63mm, Pitch 0.95mm, IPC Low Density)
pins: 1 OUT (out), 2 V- (power), 3 +IN (in), 4 -IN (in), 5 V+ (power)

## LT6003HS5#TRMPBF
designator U?
Single Channel, Precision Operational Amplifier, RRIO, 0.002 MHz Typical GBW, 0.0008 V/us Typical SR, 1.6 to 16 V, 5-Pin SOT23 (S5-5), High Temperature / Automotive, Pb-Free, Mini Reel; Linear Technology Part Number: LT6003; Manufacturer: Linear Technology; PartNumber: LT6003HS5#TRMPBF; Channels (#): 1; GBW (MHz) Typical: 0.002; Is (mA) Typical: 0.00085; SR (V/us) Typical: 0.0008; Vos (mV) Guaranteed: 0.5; Vos (mV) Typical: 0.175; Vs Max (V): 16; Vs Min (V): 1.6; DatasheetVersion: Rev. D; PackageReference: LT-S5-5-TSOT-23; PackageDescription: 5-Lead Plastic TSOT-23, Body 1.63 x 2.90 mm, Pitch 0.95 mm; Supplier 1: Digi-Key; Supplier Part Number 1: LT6003HS5#TRMPBFTR-ND; Supplier 2: Digi-Key; Supplier Part Number 2: LT6003HS5#TRMPBFCT-ND; Supplier 3: Digi-Key; Supplier Part Number 3: LT6003HS5#TRMPBFDKR-ND; Supplier 4: Farnell; Supplier Part Number 4: 1715044; Supplier 5: Farnell; Supplier Part Number 5: 1715044RL; Packing: Mini Reel; RoHS: Pb-Free; Type: VFB; Mounting Technology: Surface Mount; Code_JEDEC: MO-193; ComponentLink1Description: Manufacturer URL; ComponentLink1URL: http://www.linear.com/; ComponentLink2Description: Datasheet; ComponentLink2URL: http://cds.linear.com/docs/en/datasheet/600345fd.pdf; ComponentLink3Description: Package Specification; ComponentLink3URL: http://cds.linear.com/docs/en/packaging/SOT_5_05-08-1635.pdf
footprint LT-S5-5-TSOT-23_N (SOT23, 5-Leads, Body 2.90x1.63mm, Pitch 0.95mm, IPC Medium Density)
footprint LT-S5-5-TSOT-23_L (SOT23, 5-Leads, Body 2.90x1.63mm, Pitch 0.95mm, IPC High Density)
footprint LT-S5-5-TSOT-23_M (SOT23, 5-Leads, Body 2.90x1.63mm, Pitch 0.95mm, IPC Low Density)
pins: 1 OUT (out), 2 V- (power), 3 +IN (in), 4 -IN (in), 5 V+ (power)

## LT6003HS5#TRPBF
designator U?
Single Channel, Precision Operational Amplifier, RRIO, 0.002 MHz Typical GBW, 0.0008 V/us Typical SR, 1.6 to 16 V, 5-Pin SOT23 (S5-5), High Temperature / Automotive, Pb-Free, Reel; Linear Technology Part Number: LT6003; Manufacturer: Linear Technology; PartNumber: LT6003HS5#TRPBF; Channels (#): 1; GBW (MHz) Typical: 0.002; Is (mA) Typical: 0.00085; SR (V/us) Typical: 0.0008; Vos (mV) Guaranteed: 0.5; Vos (mV) Typical: 0.175; Vs Max (V): 16; Vs Min (V): 1.6; DatasheetVersion: Rev. D; PackageReference: LT-S5-5-TSOT-23; PackageDescription: 5-Lead Plastic TSOT-23, Body 1.63 x 2.90 mm, Pitch 0.95 mm; Supplier 1: Digi-Key; Supplier Part Number 1: LT6003HS5#TRPBF-ND; Supplier 2: Newark; Supplier Part Number 2: 57M8889; Packing: Reel; RoHS: Pb-Free; Type: VFB; Mounting Technology: Surface Mount; Code_JEDEC: MO-193; ComponentLink1Description: Manufacturer URL; ComponentLink1URL: http://www.linear.com/; ComponentLink2Description: Datasheet; ComponentLink2URL: http://cds.linear.com/docs/en/datasheet/600345fd.pdf; ComponentLink3Description: Package Specification; ComponentLink3URL: http://cds.linear.com/docs/en/packaging/SOT_5_05-08-1635.pdf
footprint LT-S5-5-TSOT-23_N (SOT23, 5-Leads, Body 2.90x1.63mm, Pitch 0.95mm, IPC Medium Density)
footprint LT-S5-5-TSOT-23_L (SOT23, 5-Leads, Body 2.90x1.63mm, Pitch 0.95mm, IPC High Density)
footprint LT-S5-5-TSOT-23_M (SOT23, 5-Leads, Body 2.90x1.63mm, Pitch 0.95mm, IPC Low Density)
pins: 1 OUT (out), 2 V- (power), 3 +IN (in), 4 -IN (in), 5 V+ (power)

## LT6003IS5
designator U?
Single Channel, Precision Operational Amplifier, RRIO, 0.002 MHz Typical GBW, 0.0008 V/us Typical SR, 1.6 to 16 V, 5-Pin SOT23 (S5-5), Industrial; Linear Technology Part Number: LT6003; Manufacturer: Linear Technology; PartNumber: LT6003IS5; Channels (#): 1; GBW (MHz) Typical: 0.002; Is (mA) Typical: 0.00085; SR (V/us) Typical: 0.0008; Vos (mV) Guaranteed: 0.5; Vos (mV) Typical: 0.175; Vs Max (V): 16; Vs Min (V): 1.6; DatasheetVersion: Rev. D; PackageReference: LT-S5-5-TSOT-23; PackageDescription: 5-Lead Plastic TSOT-23, Body 1.63 x 2.90 mm, Pitch 0.95 mm; Type: VFB; Mounting Technology: Surface Mount; Code_JEDEC: MO-193; ComponentLink1Description: Manufacturer URL; ComponentLink1URL: http://www.linear.com/; ComponentLink2Description: Datasheet; ComponentLink2URL: http://cds.linear.com/docs/en/datasheet/600345fd.pdf; ComponentLink3Description: Package Specification; ComponentLink3URL: http://cds.linear.com/docs/en/packaging/SOT_5_05-08-1635.pdf
footprint LT-S5-5-TSOT-23_N (SOT23, 5-Leads, Body 2.90x1.63mm, Pitch 0.95mm, IPC Medium Density)
footprint LT-S5-5-TSOT-23_L (SOT23, 5-Leads, Body 2.90x1.63mm, Pitch 0.95mm, IPC High Density)
footprint LT-S5-5-TSOT-23_M (SOT23, 5-Leads, Body 2.90x1.63mm, Pitch 0.95mm, IPC Low Density)
pins: 1 OUT (out), 2 V- (power), 3 +IN (in), 4 -IN (in), 5 V+ (power)

## LT6003IS5#PBF
designator U?
Single Channel, Precision Operational Amplifier, RRIO, 0.002 MHz Typical GBW, 0.0008 V/us Typical SR, 1.6 to 16 V, 5-Pin SOT23 (S5-5), Industrial, Pb-Free; Linear Technology Part Number: LT6003; Manufacturer: Linear Technology; PartNumber: LT6003IS5#PBF; Channels (#): 1; GBW (MHz) Typical: 0.002; Is (mA) Typical: 0.00085; SR (V/us) Typical: 0.0008; Vos (mV) Guaranteed: 0.5; Vos (mV) Typical: 0.175; Vs Max (V): 16; Vs Min (V): 1.6; DatasheetVersion: Rev. D; PackageReference: LT-S5-5-TSOT-23; PackageDescription: 5-Lead Plastic TSOT-23, Body 1.63 x 2.90 mm, Pitch 0.95 mm; Supplier 1: Farnell; Supplier Part Number 1: 1432097; Supplier 2: Farnell; Supplier Part Number 2: 1432097RL; RoHS: Pb-Free; Type: VFB; Mounting Technology: Surface Mount; Code_JEDEC: MO-193; ComponentLink1Description: Manufacturer URL; ComponentLink1URL: http://www.linear.com/; ComponentLink2Description: Datasheet; ComponentLink2URL: http://cds.linear.com/docs/en/datasheet/600345fd.pdf; ComponentLink3Description: Package Specification; ComponentLink3URL: http://cds.linear.com/docs/en/packaging/SOT_5_05-08-1635.pdf
footprint LT-S5-5-TSOT-23_N (SOT23, 5-Leads, Body 2.90x1.63mm, Pitch 0.95mm, IPC Medium Density)
footprint LT-S5-5-TSOT-23_L (SOT23, 5-Leads, Body 2.90x1.63mm, Pitch 0.95mm, IPC High Density)
footprint LT-S5-5-TSOT-23_M (SOT23, 5-Leads, Body 2.90x1.63mm, Pitch 0.95mm, IPC Low Density)
pins: 1 OUT (out), 2 V- (power), 3 +IN (in), 4 -IN (in), 5 V+ (power)

## LT6003IS5#TR
designator U?
Single Channel, Precision Operational Amplifier, RRIO, 0.002 MHz Typical GBW, 0.0008 V/us Typical SR, 1.6 to 16 V, 5-Pin SOT23 (S5-5), Industrial, Reel; Linear Technology Part Number: LT6003; Manufacturer: Linear Technology; PartNumber: LT6003IS5#TR; Channels (#): 1; GBW (MHz) Typical: 0.002; Is (mA) Typical: 0.00085; SR (V/us) Typical: 0.0008; Vos (mV) Guaranteed: 0.5; Vos (mV) Typical: 0.175; Vs Max (V): 16; Vs Min (V): 1.6; DatasheetVersion: Rev. D; PackageReference: LT-S5-5-TSOT-23; PackageDescription: 5-Lead Plastic TSOT-23, Body 1.63 x 2.90 mm, Pitch 0.95 mm; Supplier 1: Newark; Supplier Part Number 1: 57M8894; Packing: Reel; Type: VFB; Mounting Technology: Surface Mount; Code_JEDEC: MO-193; ComponentLink1Description: Manufacturer URL; ComponentLink1URL: http://www.linear.com/; ComponentLink2Description: Datasheet; ComponentLink2URL: http://cds.linear.com/docs/en/datasheet/600345fd.pdf; ComponentLink3Description: Package Specification; ComponentLink3URL: http://cds.linear.com/docs/en/packaging/SOT_5_05-08-1635.pdf
footprint LT-S5-5-TSOT-23_N (SOT23, 5-Leads, Body 2.90x1.63mm, Pitch 0.95mm, IPC Medium Density)
footprint LT-S5-5-TSOT-23_L (SOT23, 5-Leads, Body 2.90x1.63mm, Pitch 0.95mm, IPC High Density)
footprint LT-S5-5-TSOT-23_M (SOT23, 5-Leads, Body 2.90x1.63mm, Pitch 0.95mm, IPC Low Density)
pins: 1 OUT (out), 2 V- (power), 3 +IN (in), 4 -IN (in), 5 V+ (power)

## LT6003IS5#TRM
designator U?
Single Channel, Precision Operational Amplifier, RRIO, 0.002 MHz Typical GBW, 0.0008 V/us Typical SR, 1.6 to 16 V, 5-Pin SOT23 (S5-5), Industrial, Mini Reel; Linear Technology Part Number: LT6003; Manufacturer: Linear Technology; PartNumber: LT6003IS5#TRM; Channels (#): 1; GBW (MHz) Typical: 0.002; Is (mA) Typical: 0.00085; SR (V/us) Typical: 0.0008; Vos (mV) Guaranteed: 0.5; Vos (mV) Typical: 0.175; Vs Max (V): 16; Vs Min (V): 1.6; DatasheetVersion: Rev. D; PackageReference: LT-S5-5-TSOT-23; PackageDescription: 5-Lead Plastic TSOT-23, Body 1.63 x 2.90 mm, Pitch 0.95 mm; Packing: Mini Reel; Type: VFB; Mounting Technology: Surface Mount; Code_JEDEC: MO-193; ComponentLink1Description: Manufacturer URL; ComponentLink1URL: http://www.linear.com/; ComponentLink2Description: Datasheet; ComponentLink2URL: http://cds.linear.com/docs/en/datasheet/600345fd.pdf; ComponentLink3Description: Package Specification; ComponentLink3URL: http://cds.linear.com/docs/en/packaging/SOT_5_05-08-1635.pdf
footprint LT-S5-5-TSOT-23_N (SOT23, 5-Leads, Body 2.90x1.63mm, Pitch 0.95mm, IPC Medium Density)
footprint LT-S5-5-TSOT-23_L (SOT23, 5-Leads, Body 2.90x1.63mm, Pitch 0.95mm, IPC High Density)
footprint LT-S5-5-TSOT-23_M (SOT23, 5-Leads, Body 2.90x1.63mm, Pitch 0.95mm, IPC Low Density)
pins: 1 OUT (out), 2 V- (power), 3 +IN (in), 4 -IN (in), 5 V+ (power)

## LT6003IS5#TRMPBF
designator U?
Single Channel, Precision Operational Amplifier, RRIO, 0.002 MHz Typical GBW, 0.0008 V/us Typical SR, 1.6 to 16 V, 5-Pin SOT23 (S5-5), Industrial, Pb-Free, Mini Reel; Linear Technology Part Number: LT6003; Manufacturer: Linear Technology; PartNumber: LT6003IS5#TRMPBF; Channels (#): 1; GBW (MHz) Typical: 0.002; Is (mA) Typical: 0.00085; SR (V/us) Typical: 0.0008; Vos (mV) Guaranteed: 0.5; Vos (mV) Typical: 0.175; Vs Max (V): 16; Vs Min (V): 1.6; DatasheetVersion: Rev. D; PackageReference: LT-S5-5-TSOT-23; PackageDescription: 5-Lead Plastic TSOT-23, Body 1.63 x 2.90 mm, Pitch 0.95 mm; Supplier 1: Digi-Key; Supplier Part Number 1: LT6003IS5#TRMPBFTR-ND; Supplier 2: Digi-Key; Supplier Part Number 2: LT6003IS5#TRMPBFCT-ND; Supplier 3: Digi-Key; Supplier Part Number 3: LT6003IS5#TRMPBFDKR-ND; Supplier 4: Farnell; Supplier Part Number 4: 1715047; Supplier 5: Farnell; Supplier Part Number 5: 1715047RL; Supplier 6: Newark; Supplier Part Number 6: 57M8896; Packing: Mini Reel; RoHS: Pb-Free; Type: VFB; Mounting Technology: Surface Mount; Code_JEDEC: MO-193; ComponentLink1Description: Manufacturer URL; ComponentLink1URL: http://www.linear.com/; ComponentLink2Description: Datasheet; ComponentLink2URL: http://cds.linear.com/docs/en/datasheet/600345fd.pdf; ComponentLink3Description: Package Specification; ComponentLink3URL: http://cds.linear.com/docs/en/packaging/SOT_5_05-08-1635.pdf
footprint LT-S5-5-TSOT-23_N (SOT23, 5-Leads, Body 2.90x1.63mm, Pitch 0.95mm, IPC Medium Density)
footprint LT-S5-5-TSOT-23_L (SOT23, 5-Leads, Body 2.90x1.63mm, Pitch 0.95mm, IPC High Density)
footprint LT-S5-5-TSOT-23_M (SOT23, 5-Leads, Body 2.90x1.63mm, Pitch 0.95mm, IPC Low Density)
pins: 1 OUT (out), 2 V- (power), 3 +IN (in), 4 -IN (in), 5 V+ (power)

## LT6003IS5#TRPBF
designator U?
Single Channel, Precision Operational Amplifier, RRIO, 0.002 MHz Typical GBW, 0.0008 V/us Typical SR, 1.6 to 16 V, 5-Pin SOT23 (S5-5), Industrial, Pb-Free, Reel; Linear Technology Part Number: LT6003; Manufacturer: Linear Technology; PartNumber: LT6003IS5#TRPBF; Channels (#): 1; GBW (MHz) Typical: 0.002; Is (mA) Typical: 0.00085; SR (V/us) Typical: 0.0008; Vos (mV) Guaranteed: 0.5; Vos (mV) Typical: 0.175; Vs Max (V): 16; Vs Min (V): 1.6; DatasheetVersion: Rev. D; PackageReference: LT-S5-5-TSOT-23; PackageDescription: 5-Lead Plastic TSOT-23, Body 1.63 x 2.90 mm, Pitch 0.95 mm; Supplier 1: Digi-Key; Supplier Part Number 1: LT6003IS5#TRPBF-ND; Supplier 2: Newark; Supplier Part Number 2: 57M8897; Packing: Reel; RoHS: Pb-Free; Type: VFB; Mounting Technology: Surface Mount; Code_JEDEC: MO-193; ComponentLink1Description: Manufacturer URL; ComponentLink1URL: http://www.linear.com/; ComponentLink2Description: Datasheet; ComponentLink2URL: http://cds.linear.com/docs/en/datasheet/600345fd.pdf; ComponentLink3Description: Package Specification; ComponentLink3URL: http://cds.linear.com/docs/en/packaging/SOT_5_05-08-1635.pdf
footprint LT-S5-5-TSOT-23_N (SOT23, 5-Leads, Body 2.90x1.63mm, Pitch 0.95mm, IPC Medium Density)
footprint LT-S5-5-TSOT-23_L (SOT23, 5-Leads, Body 2.90x1.63mm, Pitch 0.95mm, IPC High Density)
footprint LT-S5-5-TSOT-23_M (SOT23, 5-Leads, Body 2.90x1.63mm, Pitch 0.95mm, IPC Low Density)
pins: 1 OUT (out), 2 V- (power), 3 +IN (in), 4 -IN (in), 5 V+ (power)

## LT6004CMS8
designator U?
Dual Channel, Precision Operational Amplifier, RRIO, 0.002 MHz Typical GBW, 0.0008 V/us Typical SR, 1.6 to 16 V, 8-Pin SOP (MS8-8), Commercial; Linear Technology Part Number: LT6004; Manufacturer: Linear Technology; PartNumber: LT6004CMS8; Channels (#): 2; GBW (MHz) Typical: 0.002; Is (mA) Typical: 0.00085; SR (V/us) Typical: 0.0008; Vos (mV) Guaranteed: 0.5; Vos (mV) Typical: 0.175; Vs Max (V): 16; Vs Min (V): 1.6; DatasheetVersion: Rev. D; PackageVersion: Rev G; PackageReference: LT-MS8-8; PackageDescription: 8-Lead Plastic Small Outline, Body 3.9 x 4.9 mm, Pitch 1.27 mm; Type: VFB; Mounting Technology: Surface Mount; ComponentLink1Description: Manufacturer URL; ComponentLink1URL: http://www.linear.com/; ComponentLink2Description: Datasheet; ComponentLink2URL: http://cds.linear.com/docs/en/datasheet/600345fd.pdf; ComponentLink3Description: Package Specification; ComponentLink3URL: http://cds.linear.com/docs/en/packaging/05081610_G_SO8.pdf
footprint LT-MS8-8_N (SOP, 8-Leads, Body 3x3mm, Pitch 0.65mm, IPC Medium Density)
footprint LT-MS8-8_L (SOP, 8-Leads, Body 3x3mm, Pitch 0.65mm, IPC High Density)
footprint LT-MS8-8_M (SOP, 8-Leads, Body 3x3mm, Pitch 0.65mm, IPC Low Density)
pins on every part: 4 V- (power), 8 V+ (power)
part A pins: 1 OUT A (out), 2 -IN A (in), 3 +IN A (in)
part B pins: 5 +IN B (in), 6 -IN B (in), 7 OUT B (out)

## LT6004CMS8#PBF
designator U?
Dual Channel, Precision Operational Amplifier, RRIO, 0.002 MHz Typical GBW, 0.0008 V/us Typical SR, 1.6 to 16 V, 8-Pin SOP (MS8-8), Commercial, Pb-Free; Linear Technology Part Number: LT6004; Manufacturer: Linear Technology; PartNumber: LT6004CMS8#PBF; Channels (#): 2; GBW (MHz) Typical: 0.002; Is (mA) Typical: 0.00085; SR (V/us) Typical: 0.0008; Vos (mV) Guaranteed: 0.5; Vos (mV) Typical: 0.175; Vs Max (V): 16; Vs Min (V): 1.6; DatasheetVersion: Rev. D; PackageVersion: Rev G; PackageReference: LT-MS8-8; PackageDescription: 8-Lead Plastic Small Outline, Body 3.9 x 4.9 mm, Pitch 1.27 mm; Supplier 1: Digi-Key; Supplier Part Number 1: LT6004CMS8#PBF-ND; Supplier 2: Farnell; Supplier Part Number 2: 2294691; Supplier 3: Newark; Supplier Part Number 3: 57M8903; RoHS: Pb-Free; Type: VFB; Mounting Technology: Surface Mount; ComponentLink1Description: Manufacturer URL; ComponentLink1URL: http://www.linear.com/; ComponentLink2Description: Datasheet; ComponentLink2URL: http://cds.linear.com/docs/en/datasheet/600345fd.pdf; ComponentLink3Description: Package Specification; ComponentLink3URL: http://cds.linear.com/docs/en/packaging/05081610_G_SO8.pdf
footprint LT-MS8-8_N (SOP, 8-Leads, Body 3x3mm, Pitch 0.65mm, IPC Medium Density)
footprint LT-MS8-8_L (SOP, 8-Leads, Body 3x3mm, Pitch 0.65mm, IPC High Density)
footprint LT-MS8-8_M (SOP, 8-Leads, Body 3x3mm, Pitch 0.65mm, IPC Low Density)
pins on every part: 4 V- (power), 8 V+ (power)
part A pins: 1 OUT A (out), 2 -IN A (in), 3 +IN A (in)
part B pins: 5 +IN B (in), 6 -IN B (in), 7 OUT B (out)

## LT6004CMS8#TR
designator U?
Dual Channel, Precision Operational Amplifier, RRIO, 0.002 MHz Typical GBW, 0.0008 V/us Typical SR, 1.6 to 16 V, 8-Pin SOP (MS8-8), Commercial, Reel; Linear Technology Part Number: LT6004; Manufacturer: Linear Technology; PartNumber: LT6004CMS8#TR; Channels (#): 2; GBW (MHz) Typical: 0.002; Is (mA) Typical: 0.00085; SR (V/us) Typical: 0.0008; Vos (mV) Guaranteed: 0.5; Vos (mV) Typical: 0.175; Vs Max (V): 16; Vs Min (V): 1.6; DatasheetVersion: Rev. D; PackageVersion: Rev G; PackageReference: LT-MS8-8; PackageDescription: 8-Lead Plastic Small Outline, Body 3.9 x 4.9 mm, Pitch 1.27 mm; Packing: Reel; Type: VFB; Mounting Technology: Surface Mount; ComponentLink1Description: Manufacturer URL; ComponentLink1URL: http://www.linear.com/; ComponentLink2Description: Datasheet; ComponentLink2URL: http://cds.linear.com/docs/en/datasheet/600345fd.pdf; ComponentLink3Description: Package Specification; ComponentLink3URL: http://cds.linear.com/docs/en/packaging/05081610_G_SO8.pdf
footprint LT-MS8-8_N (SOP, 8-Leads, Body 3x3mm, Pitch 0.65mm, IPC Medium Density)
footprint LT-MS8-8_L (SOP, 8-Leads, Body 3x3mm, Pitch 0.65mm, IPC High Density)
footprint LT-MS8-8_M (SOP, 8-Leads, Body 3x3mm, Pitch 0.65mm, IPC Low Density)
pins on every part: 4 V- (power), 8 V+ (power)
part A pins: 1 OUT A (out), 2 -IN A (in), 3 +IN A (in)
part B pins: 5 +IN B (in), 6 -IN B (in), 7 OUT B (out)

## LT6004CMS8#TRPBF
designator U?
Dual Channel, Precision Operational Amplifier, RRIO, 0.002 MHz Typical GBW, 0.0008 V/us Typical SR, 1.6 to 16 V, 8-Pin SOP (MS8-8), Commercial, Pb-Free, Reel; Linear Technology Part Number: LT6004; Manufacturer: Linear Technology; PartNumber: LT6004CMS8#TRPBF; Channels (#): 2; GBW (MHz) Typical: 0.002; Is (mA) Typical: 0.00085; SR (V/us) Typical: 0.0008; Vos (mV) Guaranteed: 0.5; Vos (mV) Typical: 0.175; Vs Max (V): 16; Vs Min (V): 1.6; DatasheetVersion: Rev. D; PackageVersion: Rev G; PackageReference: LT-MS8-8; PackageDescription: 8-Lead Plastic Small Outline, Body 3.9 x 4.9 mm, Pitch 1.27 mm; Supplier 1: Digi-Key; Supplier Part Number 1: LT6004CMS8#TRPBF-ND; Packing: Reel; RoHS: Pb-Free; Type: VFB; Mounting Technology: Surface Mount; ComponentLink1Description: Manufacturer URL; ComponentLink1URL: http://www.linear.com/; ComponentLink2Description: Datasheet; ComponentLink2URL: http://cds.linear.com/docs/en/datasheet/600345fd.pdf; ComponentLink3Description: Package Specification; ComponentLink3URL: http://cds.linear.com/docs/en/packaging/05081610_G_SO8.pdf
footprint LT-MS8-8_N (SOP, 8-Leads, Body 3x3mm, Pitch 0.65mm, IPC Medium Density)
footprint LT-MS8-8_L (SOP, 8-Leads, Body 3x3mm, Pitch 0.65mm, IPC High Density)
footprint LT-MS8-8_M (SOP, 8-Leads, Body 3x3mm, Pitch 0.65mm, IPC Low Density)
pins on every part: 4 V- (power), 8 V+ (power)
part A pins: 1 OUT A (out), 2 -IN A (in), 3 +IN A (in)
part B pins: 5 +IN B (in), 6 -IN B (in), 7 OUT B (out)

## LT6004HMS8
designator U?
Dual Channel, Precision Operational Amplifier, RRIO, 0.002 MHz Typical GBW, 0.0008 V/us Typical SR, 1.6 to 16 V, 8-Pin SOP (MS8-8), High Temperature / Automotive; Linear Technology Part Number: LT6004; Manufacturer: Linear Technology; PartNumber: LT6004HMS8; Channels (#): 2; GBW (MHz) Typical: 0.002; Is (mA) Typical: 0.00085; SR (V/us) Typical: 0.0008; Vos (mV) Guaranteed: 0.5; Vos (mV) Typical: 0.175; Vs Max (V): 16; Vs Min (V): 1.6; DatasheetVersion: Rev. D; PackageVersion: Rev G; PackageReference: LT-MS8-8; PackageDescription: 8-Lead Plastic Small Outline, Body 3.9 x 4.9 mm, Pitch 1.27 mm; Type: VFB; Mounting Technology: Surface Mount; ComponentLink1Description: Manufacturer URL; ComponentLink1URL: http://www.linear.com/; ComponentLink2Description: Datasheet; ComponentLink2URL: http://cds.linear.com/docs/en/datasheet/600345fd.pdf; ComponentLink3Description: Package Specification; ComponentLink3URL: http://cds.linear.com/docs/en/packaging/05081610_G_SO8.pdf
footprint LT-MS8-8_N (SOP, 8-Leads, Body 3x3mm, Pitch 0.65mm, IPC Medium Density)
footprint LT-MS8-8_L (SOP, 8-Leads, Body 3x3mm, Pitch 0.65mm, IPC High Density)
footprint LT-MS8-8_M (SOP, 8-Leads, Body 3x3mm, Pitch 0.65mm, IPC Low Density)
pins on every part: 4 V- (power), 8 V+ (power)
part A pins: 1 OUT A (out), 2 -IN A (in), 3 +IN A (in)
part B pins: 5 +IN B (in), 6 -IN B (in), 7 OUT B (out)

## LT6004HMS8#PBF
designator U?
Dual Channel, Precision Operational Amplifier, RRIO, 0.002 MHz Typical GBW, 0.0008 V/us Typical SR, 1.6 to 16 V, 8-Pin SOP (MS8-8), High Temperature / Automotive, Pb-Free; Linear Technology Part Number: LT6004; Manufacturer: Linear Technology; PartNumber: LT6004HMS8#PBF; Channels (#): 2; GBW (MHz) Typical: 0.002; Is (mA) Typical: 0.00085; SR (V/us) Typical: 0.0008; Vos (mV) Guaranteed: 0.5; Vos (mV) Typical: 0.175; Vs Max (V): 16; Vs Min (V): 1.6; DatasheetVersion: Rev. D; PackageVersion: Rev G; PackageReference: LT-MS8-8; PackageDescription: 8-Lead Plastic Small Outline, Body 3.9 x 4.9 mm, Pitch 1.27 mm; Supplier 1: Digi-Key; Supplier Part Number 1: LT6004HMS8#PBF-ND; Supplier 2: Newark; Supplier Part Number 2: 57M8911; RoHS: Pb-Free; Type: VFB; Mounting Technology: Surface Mount; ComponentLink1Description: Manufacturer URL; ComponentLink1URL: http://www.linear.com/; ComponentLink2Description: Datasheet; ComponentLink2URL: http://cds.linear.com/docs/en/datasheet/600345fd.pdf; ComponentLink3Description: Package Specification; ComponentLink3URL: http://cds.linear.com/docs/en/packaging/05081610_G_SO8.pdf
footprint LT-MS8-8_N (SOP, 8-Leads, Body 3x3mm, Pitch 0.65mm, IPC Medium Density)
footprint LT-MS8-8_L (SOP, 8-Leads, Body 3x3mm, Pitch 0.65mm, IPC High Density)
footprint LT-MS8-8_M (SOP, 8-Leads, Body 3x3mm, Pitch 0.65mm, IPC Low Density)
pins on every part: 4 V- (power), 8 V+ (power)
part A pins: 1 OUT A (out), 2 -IN A (in), 3 +IN A (in)
part B pins: 5 +IN B (in), 6 -IN B (in), 7 OUT B (out)

## LT6004HMS8#TR
designator U?
Dual Channel, Precision Operational Amplifier, RRIO, 0.002 MHz Typical GBW, 0.0008 V/us Typical SR, 1.6 to 16 V, 8-Pin SOP (MS8-8), High Temperature / Automotive, Reel; Linear Technology Part Number: LT6004; Manufacturer: Linear Technology; PartNumber: LT6004HMS8#TR; Channels (#): 2; GBW (MHz) Typical: 0.002; Is (mA) Typical: 0.00085; SR (V/us) Typical: 0.0008; Vos (mV) Guaranteed: 0.5; Vos (mV) Typical: 0.175; Vs Max (V): 16; Vs Min (V): 1.6; DatasheetVersion: Rev. D; PackageVersion: Rev G; PackageReference: LT-MS8-8; PackageDescription: 8-Lead Plastic Small Outline, Body 3.9 x 4.9 mm, Pitch 1.27 mm; Packing: Reel; Type: VFB; Mounting Technology: Surface Mount; ComponentLink1Description: Manufacturer URL; ComponentLink1URL: http://www.linear.com/; ComponentLink2Description: Datasheet; ComponentLink2URL: http://cds.linear.com/docs/en/datasheet/600345fd.pdf; ComponentLink3Description: Package Specification; ComponentLink3URL: http://cds.linear.com/docs/en/packaging/05081610_G_SO8.pdf
footprint LT-MS8-8_N (SOP, 8-Leads, Body 3x3mm, Pitch 0.65mm, IPC Medium Density)
footprint LT-MS8-8_L (SOP, 8-Leads, Body 3x3mm, Pitch 0.65mm, IPC High Density)
footprint LT-MS8-8_M (SOP, 8-Leads, Body 3x3mm, Pitch 0.65mm, IPC Low Density)
pins on every part: 4 V- (power), 8 V+ (power)
part A pins: 1 OUT A (out), 2 -IN A (in), 3 +IN A (in)
part B pins: 5 +IN B (in), 6 -IN B (in), 7 OUT B (out)

## LT6004HMS8#TRPBF
designator U?
Dual Channel, Precision Operational Amplifier, RRIO, 0.002 MHz Typical GBW, 0.0008 V/us Typical SR, 1.6 to 16 V, 8-Pin SOP (MS8-8), High Temperature / Automotive, Pb-Free, Reel; Linear Technology Part Number: LT6004; Manufacturer: Linear Technology; PartNumber: LT6004HMS8#TRPBF; Channels (#): 2; GBW (MHz) Typical: 0.002; Is (mA) Typical: 0.00085; SR (V/us) Typical: 0.0008; Vos (mV) Guaranteed: 0.5; Vos (mV) Typical: 0.175; Vs Max (V): 16; Vs Min (V): 1.6; DatasheetVersion: Rev. D; PackageVersion: Rev G; PackageReference: LT-MS8-8; PackageDescription: 8-Lead Plastic Small Outline, Body 3.9 x 4.9 mm, Pitch 1.27 mm; Supplier 1: Digi-Key; Supplier Part Number 1: LT6004HMS8#TRPBF-ND; Packing: Reel; RoHS: Pb-Free; Type: VFB; Mounting Technology: Surface Mount; ComponentLink1Description: Manufacturer URL; ComponentLink1URL: http://www.linear.com/; ComponentLink2Description: Datasheet; ComponentLink2URL: http://cds.linear.com/docs/en/datasheet/600345fd.pdf; ComponentLink3Description: Package Specification; ComponentLink3URL: http://cds.linear.com/docs/en/packaging/05081610_G_SO8.pdf
footprint LT-MS8-8_N (SOP, 8-Leads, Body 3x3mm, Pitch 0.65mm, IPC Medium Density)
footprint LT-MS8-8_L (SOP, 8-Leads, Body 3x3mm, Pitch 0.65mm, IPC High Density)
footprint LT-MS8-8_M (SOP, 8-Leads, Body 3x3mm, Pitch 0.65mm, IPC Low Density)
pins on every part: 4 V- (power), 8 V+ (power)
part A pins: 1 OUT A (out), 2 -IN A (in), 3 +IN A (in)
part B pins: 5 +IN B (in), 6 -IN B (in), 7 OUT B (out)